# EAGLE library part 74*HC04 (library MAX9812)
SN54AHC04, SN74AHC04 HEX INVERTERS Features: Operating Range 2-V to 5.5-V VCC Latch-Up Performance Exceeds 250 mA PerJESD 17 ESD Protection Exceeds JESD 22 - 2000-V Human-Body Model (A114-A) - 200-V Machine Model (A115-A) - 1000-V Charged-Device Model (C101) Description: The MC74HC04A is identical in pinout to the LS04 and the MC14069. The device inputs are compatible with Standard CMOS outputs; with pullup resistors, they are compatible with LSTTL outputs. The device consists of six three?stage inverters. Features: Output Drive Capability: 10 LSTTL Loads Outputs Directly Interface to CMOS, NMOS and TTL Operating Voltage Range: 2.0 to 6.0 V Low Input Current: u1 A High Noise Immunity Characteristic of CMOS Devices In Compliance With the JEDEC Standard No. 7A Requirements Chip Complexity: 36 FETs or 9 Equivalent Gates Pb?Free Packages are Available* SN54HC04, SN74HC04 HEX INVERTERS Features: Wide Operating Voltage Range of 2 V to 6 V Outputs Can Drive Up To 10 LSTTL Loads Low Power Consumption, 20-uA Max ICC Typical tpd = 8 ns ±4-mA Output Drive at 5 V Low Input Current of 1 uA Max Please send any comments to: messi@users.sourceforge.net
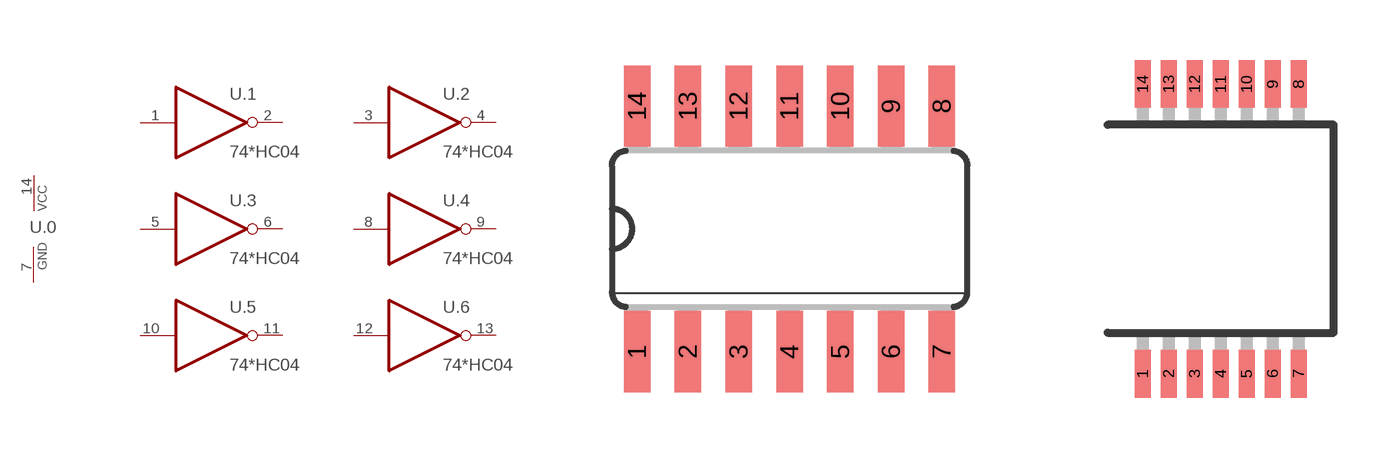
[diagram p103: symbol with the pads of SO14; footprints SO14, SSOP14]

Designator prefix U; gates .1=7404 .2=7404 .3=7404 .4=7404 .5=7404 .6=7404 .0=PWR_GND

## 74HC04D  [SO14]
1  .1:A  in
2  .1:Y  out
3  .2:A  in
4  .2:Y  out
5  .3:A  in
6  .3:Y  out
7  .0:GND  pwr
8  .4:A  in
9  .4:Y  out
10  .5:A  in
11  .5:Y  out
12  .6:A  in
13  .6:Y  out
14  .0:VCC  pwr

## 74HC04DB  [SSOP14]
Pads as for SO14

## 74HC04PW  [TSSOP14]
Pads as for SO14

## Footprint SO14 (pad centres in mm)
Small Outline package 150 mil
smd 0.66 x 2.032: 1 -3.81,-3.073; 2 -2.54,-3.073; 3 -1.27,-3.073; 4 0,-3.073; 5 1.27,-3.073; 6 2.54,-3.073; 7 3.81,-3.073; 8 3.81,3.073; 9 2.54,3.073; 10 1.27,3.073; 11 0,3.073; 12 -1.27,3.073; 13 -2.54,3.073; 14 -3.81,3.073

## Footprint SSOP14 (pad centres in mm)
smd 0.4 x 1.2: 1 -1.95,-3.625; 2 -1.3,-3.625; 3 -0.65,-3.625; 4 0,-3.625; 5 0.65,-3.625; 6 1.3,-3.625; 7 1.95,-3.625; 8 1.95,3.625; 9 1.3,3.625; 10 0.65,3.625; 11 0,3.625; 12 -0.65,3.625; 13 -1.3,3.625; 14 -1.95,3.625

## Footprint TSSOP14 (pad centres in mm)
Thin Shrink Small Outline Plastic 14
smd 0.35 x 1: 1 -1.95,-3; 2 -1.3,-3; 3 -0.65,-3; 4 0,-3; 5 0.65,-3; 6 1.3,-3; 7 1.95,-3; 8 1.95,3; 9 1.3,3; 10 0.65,3; 11 0,3; 12 -0.65,3; 13 -1.3,3; 14 -1.95,3